# Altium footprint library 剥皮器20200614.PcbLib: 34 footprints (part 1 of 3)
Each footprint in its own frame and in the unit in brackets; x right, y up, seen from the top. Pads: shape width x height; smd on the part's side, far side on the other; paste and mask are expansions set on the pad; w line width, h text height; cw(c..) or ccw(c..) is an arc to the next point about the centre after c.
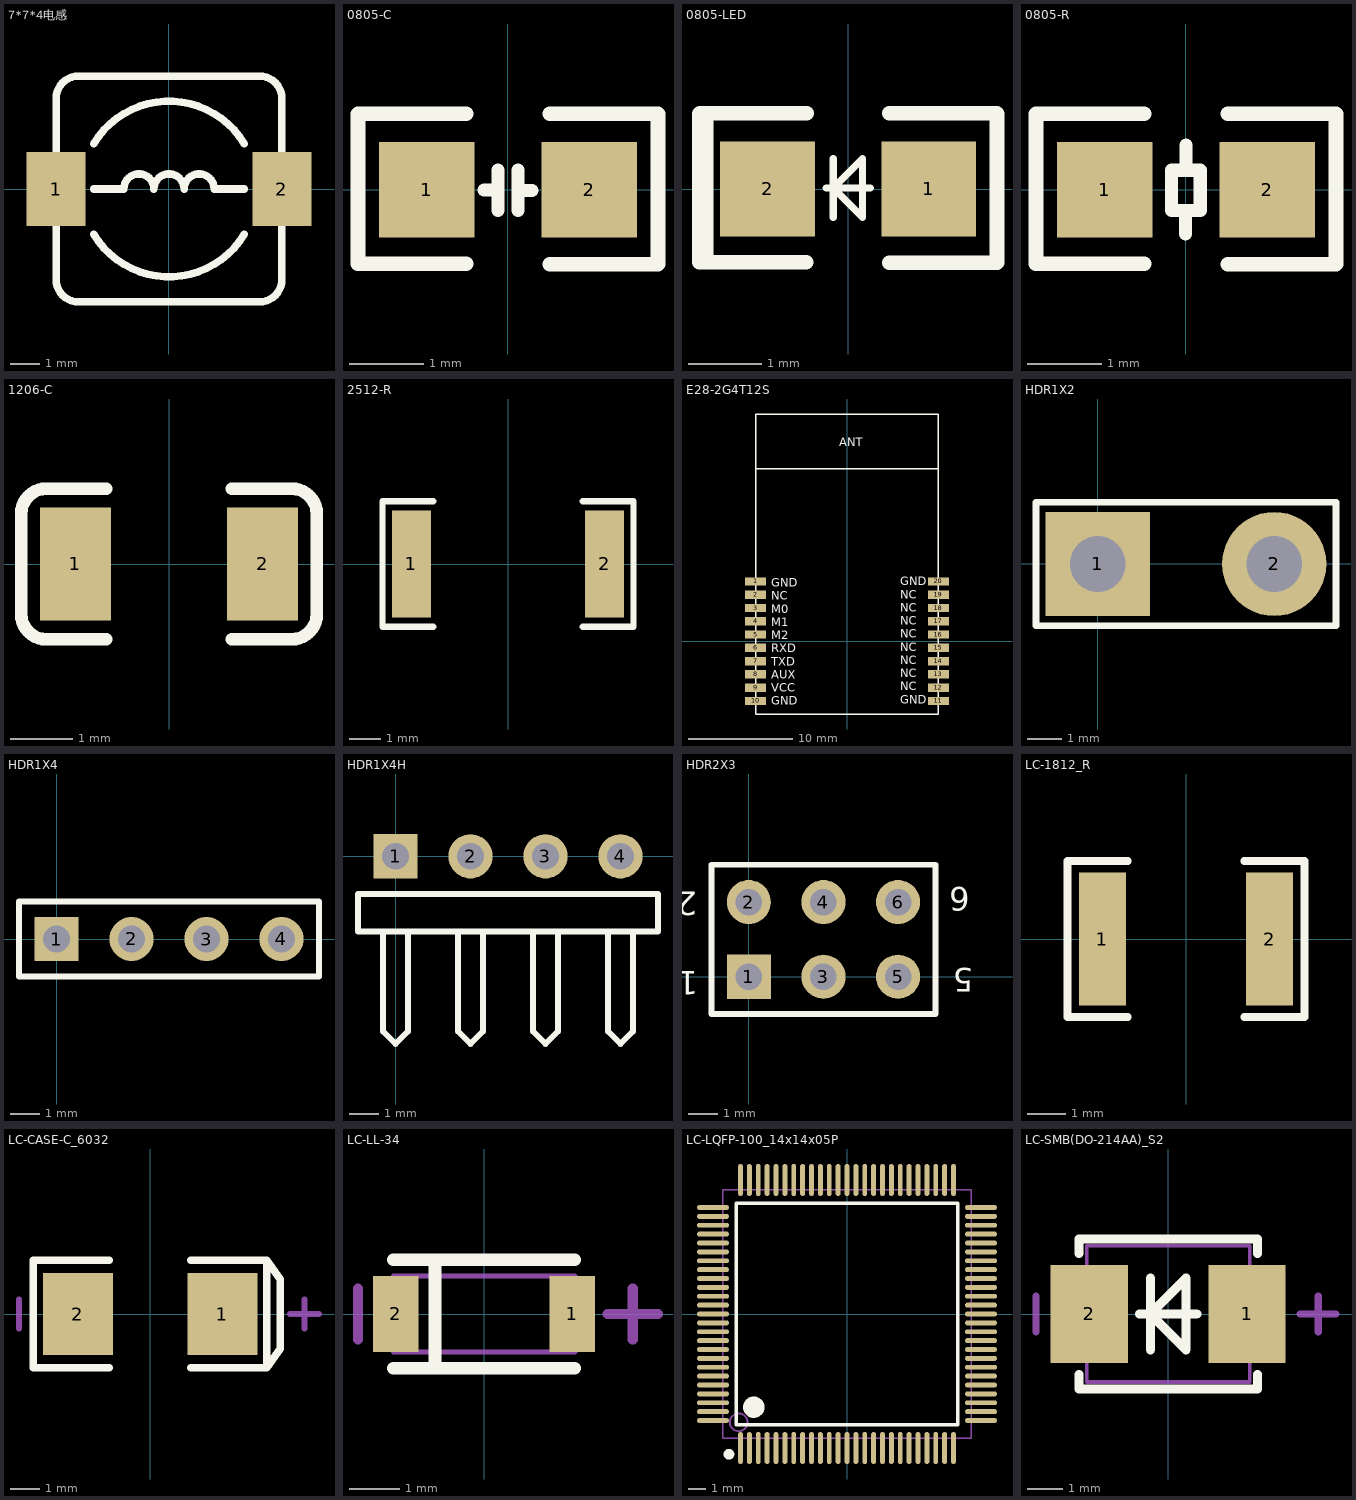
[diagram p0: the footprints below, top view; thin cyan lines are the x and y axes]

## 7*7*4电感 [mm] "7*7*4电感"
pads (2):
  rect 2x2.5 smd: 1(-3.81,0) 2(3.81,0)
Top Overlay:
  lines w0.254: -3.81,-1.27 -3.81,-3.048 ccw(c-3.048,-3.048) -3.048,-3.81 3.048,-3.81 ccw(c3.048,-3.048) 3.81,-3.048 3.81,-1.27 ; -3.81,1.27 -3.81,3.048 cw(c-3.048,3.048) -3.048,3.81 3.048,3.81 cw(c3.048,3.048) 3.81,3.048 3.81,1.27 ; -2.54,-1.524 ccw(c0,0) 2.54,-1.524 ; -2.54,0 -1.524,0 cw(c-1.016,0) -0.508,0 cw(c0,0) 0.508,0 cw(c1.016,0) 1.524,0 2.54,0 ; -2.54,1.524 cw(c0,0) 2.54,1.524
3D body: height 3.65, standoff 0, extent -3.65,-3.65 3.65,3.65

## 0805-C [mil] "0805贴片电容"
height 214.96
pads (2):
  rect 51x51 smd: 1(-43.31,0) 2(43.31,0)
Top Overlay:
  lines w7: -12.76,0 -5.43,0 ; -5.43,-10.87 -5.43,10.63 ; 5.43,-10.87 5.43,10.63 ; 5.43,-0.24 12.76,-0.24
  lines w7.87: -80,40.5 -80,-39.45 -22.44,-39.45 ; -79.84,40.63 -22.2,40.63 ; 22.2,-39.69 79.84,-39.69 ; 22.2,40.63 79.84,40.63 ; 80,-39.5 80,40.5

## 0805-LED [mil] "0805LED"
pads (2):
  rect 51x51 smd: 1(43.31,0) 2(-43.31,0)
Top Overlay:
  rectangle: -81.26,-41.1 -72.28,41.1
  lines w3.94: -11.81,0.57 11.81,0.57 ; -8.02,-15.18 -8.02,16.32 ; -8.02,0.57 7.72,-15.18 7.72,16.32 -8.02,0.57
  lines w7.87: -80,40.5 -80,-39.29 -79.84,-39.45 -22.44,-39.45 ; -79.84,40.63 -22.2,40.63 ; 22.2,-39.69 79.84,-39.69 ; 22.2,40.63 79.84,40.63 ; 80,-39.5 80,40.5

## 0805-R [mil] "0805电阻"
pads (2):
  rect 51x51 smd: 1(-43.31,0) 2(43.31,0)
Top Overlay:
  lines w7: -1,-11 7.61,-11 7.61,10.5 -7.74,10.5 -7.74,-11 1,-11 ; -0.18,-23.38 -0.18,-11.07 ; 0.06,11.76 0.06,23.89 ; 0.5,10.5 1,10.5
  lines w7.87: -80,40.5 -80,-39.45 -22.44,-39.45 ; -79.84,40.63 -22.2,40.63 ; 22.2,-39.69 79.84,-39.69 ; 22.2,40.63 79.84,40.63 ; 80,-39.5 80,40.5

## 1206-C [mm]
height 5.46
pads (2):
  rect 1.13x1.8 smd: 1(-1.49,0) 2(1.49,0)
Top Overlay:
  lines w0.2: -1,-1.2 -1.955,-1.2 cw(c-1.955,-0.8) -2.355,-0.8 -2.355,0.8 cw(c-1.955,0.8) -1.955,1.2 -1,1.2 ; 1,-1.2 1.955,-1.2 ccw(c1.955,-0.8) 2.355,-0.8 2.355,0.8 ccw(c1.955,0.8) 1.955,1.2 1,1.2
3D body: height 1, standoff 0, extent -1.602,-0.813 1.598,0.787

## 2512-R [mm] "2512-R"
pads (2):
  rect 1.25x3.42 smd: 1(-3.1,0) 2(3.1,0)
Top Overlay:
  lines w0.2: -2.4,-2.01 -4.025,-2.01 -4.025,2.01 -2.4,2.01 ; 2.4,-2.01 4.025,-2.01 4.025,2.01 2.4,2.01
3D body: height 0.62, standoff 0, extent -3.159,-1.6 3.16,1.6

## E28-2G4T12S [mm]
pads (20):
  rect 2x0.8 smd: 1(-8.75,5.715) 2(-8.75,4.445) 3(-8.75,3.175) 4(-8.75,1.905) 5(-8.75,0.635) 6(-8.75,-0.635) 7(-8.75,-1.905) 8(-8.75,-3.175) 9(-8.75,-4.445) 10(-8.75,-5.715) 11(8.75,-5.715) 12(8.75,-4.445) 13(8.75,-3.175) 14(8.75,-1.905) 15(8.75,-0.635) 16(8.75,0.635) 17(8.75,1.905) 18(8.75,3.175) 19(8.75,4.445) 20(8.75,5.715)
Top Overlay:
  lines w0.127: -8.763,16.51 8.737,16.51 ; -8.75,-6.965 8.75,-6.965 8.75,21.735 -8.75,21.735 -8.75,-6.965
  text "ANT" at -0.762,18.669 h0.8
  text "GND" at 5.08,5.334 h0.8
  text "NC" at 5.08,4.078 h0.8
  text "NC" at 5.08,2.822 h0.8
  text "NC" at 5.08,1.566 h0.8
  text "NC" at 5.08,0.31 h0.8
  text "NC" at 5.08,-0.945 h0.8
  text "NC" at 5.08,-2.201 h0.8
  text "NC" at 5.08,-3.457 h0.8
  text "NC" at 5.08,-4.713 h0.8
  text "GND" at 5.08,-5.969 h0.8
  text "GND" at -7.239,-6.096 h0.8
  text "VCC" at -7.239,-4.84 h0.8
  text "AUX" at -7.239,-3.584 h0.8
  text "TXD" at -7.239,-2.328 h0.8
  text "RXD" at -7.239,-1.072 h0.8
  text "M2" at -7.239,0.183 h0.8
  text "M1" at -7.239,1.439 h0.8
  text "M0" at -7.239,2.695 h0.8
  text "NC" at -7.239,3.951 h0.8
  text "GND" at -7.239,5.207 h0.8

## HDR1X2 [mm] "Connector; Header; 2 Position"
pads (2):
  rect 3x3 hole 1.6: 1(0,0)
  round 3 hole 1.6: 2(5.08,0)
Top Overlay:
  lines w0.2: -1.778,-1.778 -1.778,1.778 6.858,1.778 6.858,-1.778 -1.778,-1.778

## HDR1X4 [mm] "Connector; Header; 4 Position"
pads (4):
  rect 1.5x1.5 hole 0.9: 1(0,0)
  round 1.5 hole 0.9: 2(2.54,0) 3(5.08,0) 4(7.62,0)
Top Overlay:
  lines w0.2: -1.27,-1.27 -1.27,1.27 8.89,1.27 8.89,-1.27 -1.27,-1.27

## HDR1X4H [mm] "Connector; Header; 4 Position; Right Angle"
pads (4):
  rect 1.5x1.5 hole 0.9: 1(0,0)
  round 1.5 hole 0.9: 2(2.54,0) 3(5.08,0) 4(7.62,0)
Top Overlay:
  lines w0.2: -0.423,-2.54 -0.423,-5.927 0,-6.35 0.423,-5.927 0.423,-2.54 ; 2.117,-2.54 2.117,-5.927 2.54,-6.35 2.963,-5.927 2.963,-2.54 ; 4.657,-2.54 4.657,-5.927 5.08,-6.35 5.503,-5.927 5.503,-2.54 ; 7.197,-2.54 7.197,-5.927 7.62,-6.35 8.043,-5.927 8.043,-2.54 ; -1.27,-2.54 -1.27,-1.27 8.89,-1.27 8.89,-2.54 -1.27,-2.54

## HDR2X3 [mm] "Connector; Header; 3x2 Position"
pads (6):
  rect 1.5x1.5 hole 0.9: 1(0,0)
  round 1.5 hole 0.9: 2(0,2.54) 3(2.54,0) 4(2.54,2.54) 5(5.08,0) 6(5.08,2.54)
Top Overlay:
  lines w0.2: 1.482,-1.27 6.35,-1.27 ; 6.35,-1.27 -1.27,-1.27 -1.27,3.81 6.35,3.81 6.35,-1.27
  text "1" at -1.721,0.187 h0.8
  text "2" at -1.763,2.896 h0.8
  text "5" at 7.645,0.285 h0.8
  text "6" at 7.512,3.036 h0.8

## LC-1812_R [mm]
pads (2):
  rect 1.2x3.42 smd: 1(-2.15,0) 2(2.15,0)
Top Overlay:
  lines w0.2: -1.5,-2.01 -3.05,-2.01 -3.05,2.01 -1.5,2.01 ; 1.5,-2.01 3.05,-2.01 3.05,2.01 1.5,2.01
3D body: height 0.59, standoff -0.01, extent -2.251,-1.6 2.249,1.6

## LC-CASE-C_6032 [mm]
pads (2):
  rect 2.4x2.8 smd: 1(2.48,0) 2(-2.48,0)
Top Overlay:
  lines w0.254: -1.4,-1.85 -4.007,-1.85 -4.007,1.85 -1.4,1.85 ; 1.4,-1.85 4.007,-1.85 ; 1.4,1.85 4.007,1.85 ; 4.007,-1.85 4.47,-1.2 4.47,1.2 4.007,1.85 ; 4.007,-1.85 4.007,1.85
Mechanical 15:
  lines w0.203: -4.5,-0.5 -4.5,0.5 ; 4.8,0 5.8,0 ; 5.3,-0.5 5.3,0.5
3D body: height 2.7, standoff 0, extent -3.05,-1.675 3.05,1.675

## LC-LL-34 [mm]
pads (2):
  rect 0.9x1.5 smd: 1(1.75,0) 2(-1.75,0)
Top Overlay:
  lines w0.254: -1.8,-1.075 1.8,-1.075 ; -1.8,1.075 1.8,1.075 ; -0.975,-1.075 -0.975,1.075
Mechanical 13:
  lines w0.1: -1.8,-0.75 1.8,-0.75 1.8,0.75 -1.8,0.75 -1.8,-0.75
Mechanical 15:
  lines w0.203: -2.5,-0.5 -2.5,0.5 ; 2.45,0 3.45,0 ; 2.95,-0.5 2.95,0.5

## LC-LQFP-100_14x14x05P [mm]
pads (100):
  oval 0.28x1.8 smd mask+0.051: 1(-6,-7.55) 2(-5.5,-7.55) 3(-5,-7.55) 4(-4.5,-7.55) 5(-4,-7.55) 6(-3.5,-7.55) 7(-3,-7.55) 8(-2.5,-7.55) 9(-2,-7.55) 10(-1.5,-7.55) 11(-1,-7.55) 12(-0.5,-7.55) 13(0,-7.55) 14(0.5,-7.55) 15(1,-7.55) 16(1.5,-7.55) 17(2,-7.55) 18(2.5,-7.55) 19(3,-7.55) 20(3.5,-7.55) 21(4,-7.55) 22(4.5,-7.55) 23(5,-7.55) 24(5.5,-7.55) 25(6,-7.55) 51(6,7.55) 52(5.5,7.55) 53(5,7.55) 54(4.5,7.55) 55(4,7.55) 56(3.5,7.55) 57(3,7.55) 58(2.5,7.55) 59(2,7.55) 60(1.5,7.55) 61(1,7.55) 62(0.5,7.55) 63(0,7.55) 64(-0.5,7.55) 65(-1,7.55) 66(-1.5,7.55) 67(-2,7.55) 68(-2.5,7.55) 69(-3,7.55) 70(-3.5,7.55) 71(-4,7.55) 72(-4.5,7.55) 73(-5,7.55) 74(-5.5,7.55) 75(-6,7.55)
  oval 1.8x0.28 smd mask+0.051: 26(7.55,-6) 27(7.55,-5.5) 28(7.55,-5) 29(7.55,-4.5) 30(7.55,-4) 31(7.55,-3.5) 32(7.55,-3) 33(7.55,-2.5) 34(7.55,-2) 35(7.55,-1.5) 36(7.55,-1) 37(7.55,-0.5) 38(7.55,0) 39(7.55,0.5) 40(7.55,1) 41(7.55,1.5) 42(7.55,2) 43(7.55,2.5) 44(7.55,3) 45(7.55,3.5) 46(7.55,4) 47(7.55,4.5) 48(7.55,5) 49(7.55,5.5) 50(7.55,6) 76(-7.55,6) 77(-7.55,5.5) 78(-7.55,5) 79(-7.55,4.5) 80(-7.55,4) 81(-7.55,3.5) 82(-7.55,3) 83(-7.55,2.5) 84(-7.55,2) 85(-7.55,1.5) 86(-7.55,1) 87(-7.55,0.5) 88(-7.55,0) 89(-7.55,-0.5) 90(-7.55,-1) 91(-7.55,-1.5) 92(-7.55,-2) 93(-7.55,-2.5) 94(-7.55,-3) 95(-7.55,-3.5) 96(-7.55,-4) 97(-7.55,-4.5) 98(-7.55,-5) 99(-7.55,-5.5) 100(-7.55,-6)
Top Overlay:
  circle w0.3: c-6.65,-7.9 r0.15
  circle w0.6: c-5.25,-5.25 r0.3
  lines w0.2: -6.25,-6.25 6.25,-6.25 6.25,6.25 -6.25,6.25 -6.25,-6.25
Mechanical 13:
  circle w0.1: c-6.1,-6.1 r0.5
  lines w0.1: -7,-7 7,-7 7,7 -7,7 -7,-7

## LC-SMB(DO-214AA)_S2 [mm]
height 5.46
pads (2):
  rect 2.159x2.743 smd: 1(2.21,0) 2(-2.21,0)
Top Overlay:
  lines w0.254: -2.5,-1.7 -2.5,-2.1 2.5,-2.1 2.5,-1.7 ; -2.5,1.7 -2.5,2.1 2.5,2.1 2.5,1.7 ; -0.8,0 0.8,0 ; -0.5,-1 -0.5,1 ; -0.5,0 0.5,1 0.5,-1 -0.5,0
Mechanical 13:
  lines w0.1: -2.285,-1.905 2.285,-1.905 2.285,1.905 -2.285,1.905 -2.285,-1.905
Mechanical 15:
  lines w0.203: -3.7,-0.5 -3.7,0.5 ; 3.7,0 4.7,0 ; 4.2,-0.5 4.2,0.5